# EAGLE library part AT32UC3C1512/1256/1128 (library atmel-avr32-michel)
AT32UC3C1512/1256/1128
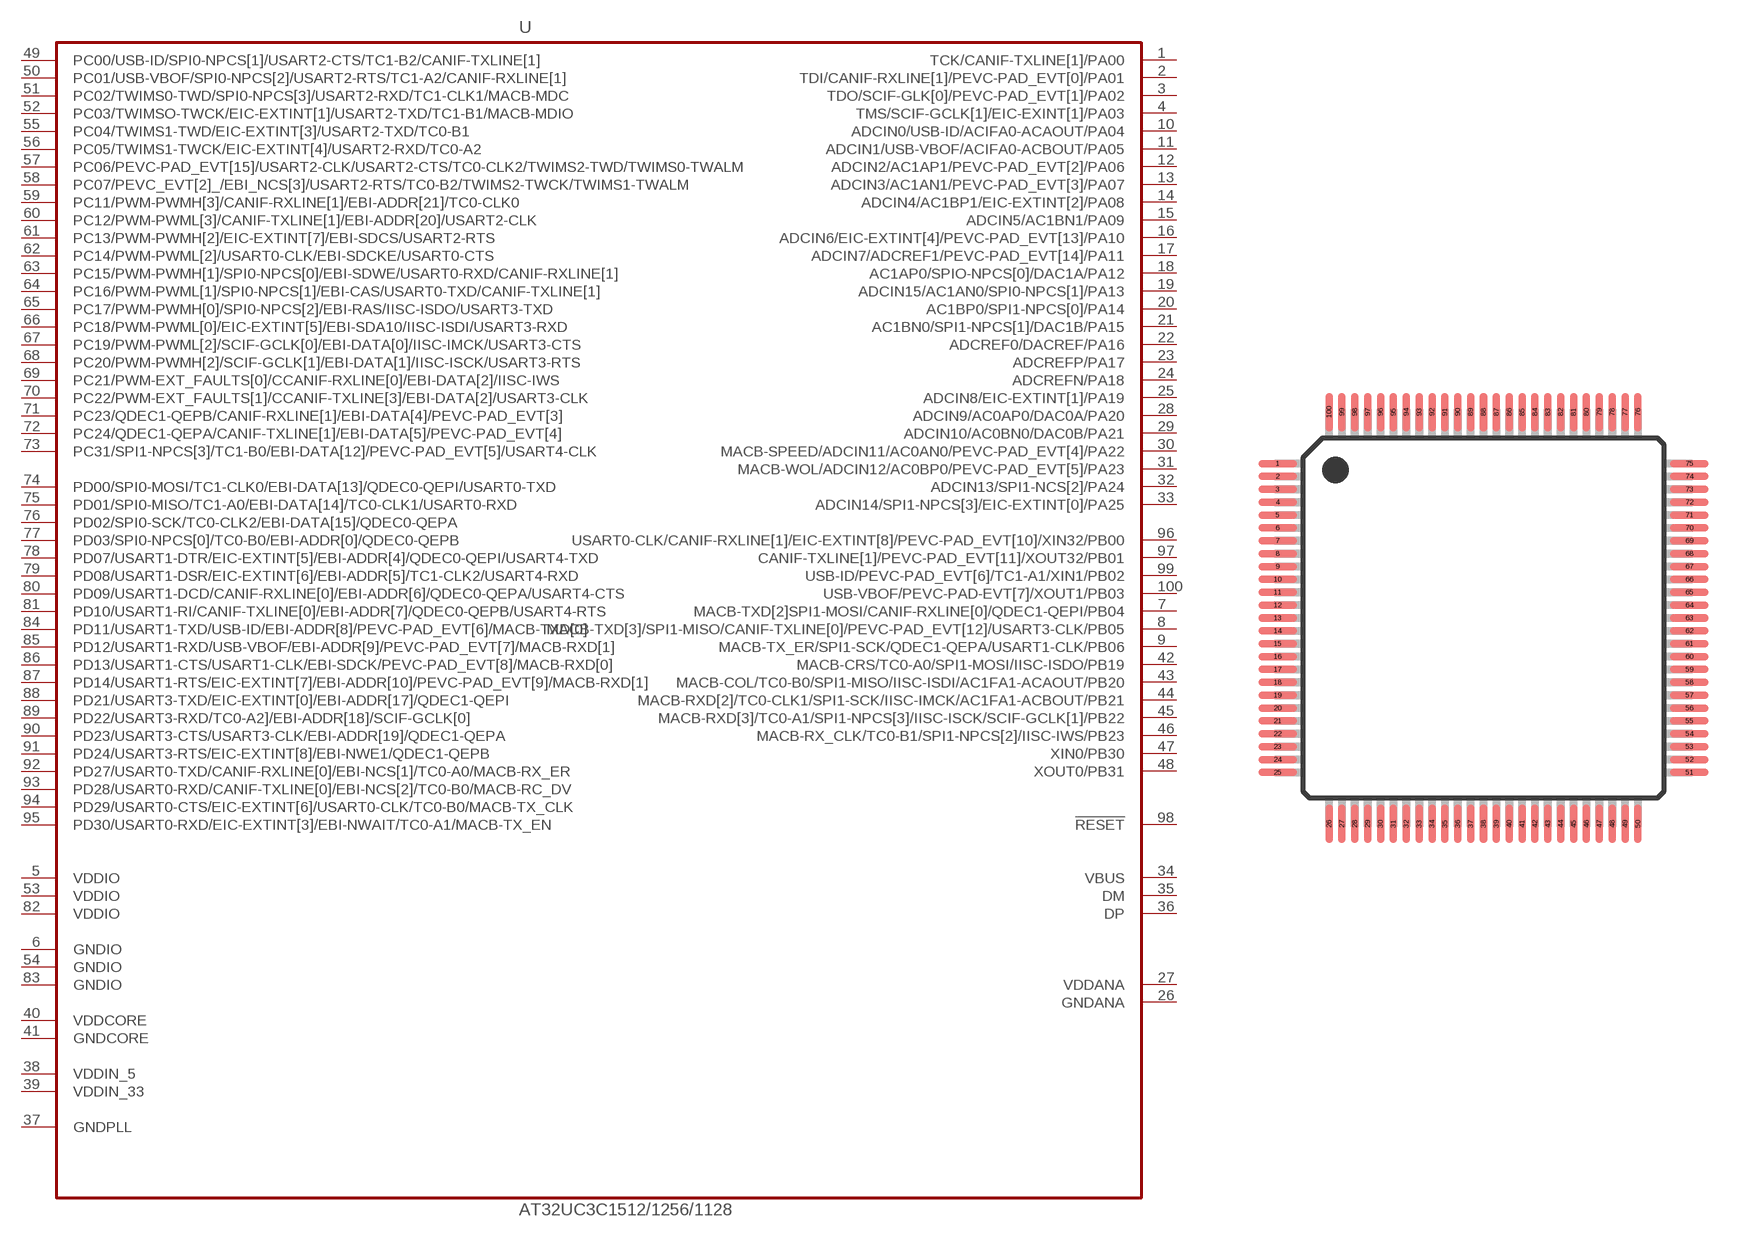
[diagram p2: symbol with the pads of TQFP100; footprint TQFP100]

Designator prefix U

## AT32UC3C1512/1256/1128 (DISTRIBUTOR: Digikey; ORDER_CODE: AT32UC3C1512C-AUT-ND; PLACE_PART: YES; UNIT_PRICE: 12.95; UNIT_PRICE_100X: 10.0128; UNIT_PRICE_10X: 11.78; UNIT_PRICE_25X: 10.8964; UNIT_PRICE_50X: 10.8964)  [TQFP100]
1  TCK/CANIF-TXLINE[1]/PA00
2  TDI/CANIF-RXLINE[1]/PEVC-PAD_EVT[0]/PA01
3  TDO/SCIF-GLK[0]/PEVC-PAD_EVT[1]/PA02
4  TMS/SCIF-GCLK[1]/EIC-EXINT[1]/PA03
5  VDDIO  pwr
6  GNDIO  pwr
7  MACB-TXD[2]SPI1-MOSI/CANIF-RXLINE[0]/QDEC1-QEPI/PB04
8  MACB-TXD[3]/SPI1-MISO/CANIF-TXLINE[0]/PEVC-PAD_EVT[12]/USART3-CLK/PB05
9  MACB-TX_ER/SPI1-SCK/QDEC1-QEPA/USART1-CLK/PB06
10  ADCIN0/USB-ID/ACIFA0-ACAOUT/PA04
11  ADCIN1/USB-VBOF/ACIFA0-ACBOUT/PA05
12  ADCIN2/AC1AP1/PEVC-PAD_EVT[2]/PA06
13  ADCIN3/AC1AN1/PEVC-PAD_EVT[3]/PA07
14  ADCIN4/AC1BP1/EIC-EXTINT[2]/PA08
15  ADCIN5/AC1BN1/PA09
16  ADCIN6/EIC-EXTINT[4]/PEVC-PAD_EVT[13]/PA10
17  ADCIN7/ADCREF1/PEVC-PAD_EVT[14]/PA11
18  AC1AP0/SPIO-NPCS[0]/DAC1A/PA12
19  ADCIN15/AC1AN0/SPI0-NPCS[1]/PA13
20  AC1BP0/SPI1-NPCS[0]/PA14
21  AC1BN0/SPI1-NPCS[1]/DAC1B/PA15
22  ADCREF0/DACREF/PA16
23  ADCREFP/PA17
24  ADCREFN/PA18
25  ADCIN8/EIC-EXTINT[1]/PA19
26  GNDANA  pwr
27  VDDANA  pwr
28  ADCIN9/AC0AP0/DAC0A/PA20
29  ADCIN10/AC0BN0/DAC0B/PA21
30  MACB-SPEED/ADCIN11/AC0AN0/PEVC-PAD_EVT[4]/PA22
31  MACB-WOL/ADCIN12/AC0BP0/PEVC-PAD_EVT[5]/PA23
32  ADCIN13/SPI1-NCS[2]/PA24
33  ADCIN14/SPI1-NPCS[3]/EIC-EXTINT[0]/PA25
34  VBUS
35  DM
36  DP
37  GNDPLL  pwr
38  VDDIN_5  pwr
39  VDDIN_33  pwr
40  VDDCORE  pwr
41  GNDCORE  pwr
42  MACB-CRS/TC0-A0/SPI1-MOSI/IISC-ISDO/PB19
43  MACB-COL/TC0-B0/SPI1-MISO/IISC-ISDI/AC1FA1-ACAOUT/PB20
44  MACB-RXD[2]/TC0-CLK1/SPI1-SCK/IISC-IMCK/AC1FA1-ACBOUT/PB21
45  MACB-RXD[3]/TC0-A1/SPI1-NPCS[3]/IISC-ISCK/SCIF-GCLK[1]/PB22
46  MACB-RX_CLK/TC0-B1/SPI1-NPCS[2]/IISC-IWS/PB23
47  XIN0/PB30
48  XOUT0/PB31
49  PC00/USB-ID/SPI0-NPCS[1]/USART2-CTS/TC1-B2/CANIF-TXLINE[1]
50  PC01/USB-VBOF/SPI0-NPCS[2]/USART2-RTS/TC1-A2/CANIF-RXLINE[1]
51  PC02/TWIMS0-TWD/SPI0-NPCS[3]/USART2-RXD/TC1-CLK1/MACB-MDC
52  PC03/TWIMSO-TWCK/EIC-EXTINT[1]/USART2-TXD/TC1-B1/MACB-MDIO
53  VDDIO  pwr
54  GNDIO  pwr
55  PC04/TWIMS1-TWD/EIC-EXTINT[3]/USART2-TXD/TC0-B1
56  PC05/TWIMS1-TWCK/EIC-EXTINT[4]/USART2-RXD/TC0-A2
57  PC06/PEVC-PAD_EVT[15]/USART2-CLK/USART2-CTS/TC0-CLK2/TWIMS2-TWD/TWIMS0-TWALM
58  PC07/PEVC_EVT[2]_/EBI_NCS[3]/USART2-RTS/TC0-B2/TWIMS2-TWCK/TWIMS1-TWALM
59  PC11/PWM-PWMH[3]/CANIF-RXLINE[1]/EBI-ADDR[21]/TC0-CLK0
60  PC12/PWM-PWML[3]/CANIF-TXLINE[1]/EBI-ADDR[20]/USART2-CLK
61  PC13/PWM-PWMH[2]/EIC-EXTINT[7]/EBI-SDCS/USART2-RTS
62  PC14/PWM-PWML[2]/USART0-CLK/EBI-SDCKE/USART0-CTS
63  PC15/PWM-PWMH[1]/SPI0-NPCS[0]/EBI-SDWE/USART0-RXD/CANIF-RXLINE[1]
64  PC16/PWM-PWML[1]/SPI0-NPCS[1]/EBI-CAS/USART0-TXD/CANIF-TXLINE[1]
65  PC17/PWM-PWMH[0]/SPI0-NPCS[2]/EBI-RAS/IISC-ISDO/USART3-TXD
66  PC18/PWM-PWML[0]/EIC-EXTINT[5]/EBI-SDA10/IISC-ISDI/USART3-RXD
67  PC19/PWM-PWML[2]/SCIF-GCLK[0]/EBI-DATA[0]/IISC-IMCK/USART3-CTS
68  PC20/PWM-PWMH[2]/SCIF-GCLK[1]/EBI-DATA[1]/IISC-ISCK/USART3-RTS
69  PC21/PWM-EXT_FAULTS[0]/CCANIF-RXLINE[0]/EBI-DATA[2]/IISC-IWS
70  PC22/PWM-EXT_FAULTS[1]/CCANIF-TXLINE[3]/EBI-DATA[2]/USART3-CLK
71  PC23/QDEC1-QEPB/CANIF-RXLINE[1]/EBI-DATA[4]/PEVC-PAD_EVT[3]
72  PC24/QDEC1-QEPA/CANIF-TXLINE[1]/EBI-DATA[5]/PEVC-PAD_EVT[4]
73  PC31/SPI1-NPCS[3]/TC1-B0/EBI-DATA[12]/PEVC-PAD_EVT[5]/USART4-CLK
74  PD00/SPI0-MOSI/TC1-CLK0/EBI-DATA[13]/QDEC0-QEPI/USART0-TXD
75  PD01/SPI0-MISO/TC1-A0/EBI-DATA[14]/TC0-CLK1/USART0-RXD
76  PD02/SPI0-SCK/TC0-CLK2/EBI-DATA[15]/QDEC0-QEPA
77  PD03/SPI0-NPCS[0]/TC0-B0/EBI-ADDR[0]/QDEC0-QEPB
78  PD07/USART1-DTR/EIC-EXTINT[5]/EBI-ADDR[4]/QDEC0-QEPI/USART4-TXD
79  PD08/USART1-DSR/EIC-EXTINT[6]/EBI-ADDR[5]/TC1-CLK2/USART4-RXD
80  PD09/USART1-DCD/CANIF-RXLINE[0]/EBI-ADDR[6]/QDEC0-QEPA/USART4-CTS
81  PD10/USART1-RI/CANIF-TXLINE[0]/EBI-ADDR[7]/QDEC0-QEPB/USART4-RTS
82  VDDIO  pwr
83  GNDIO  pwr
84  PD11/USART1-TXD/USB-ID/EBI-ADDR[8]/PEVC-PAD_EVT[6]/MACB-TXD[0]
85  PD12/USART1-RXD/USB-VBOF/EBI-ADDR[9]/PEVC-PAD_EVT[7]/MACB-RXD[1]
86  PD13/USART1-CTS/USART1-CLK/EBI-SDCK/PEVC-PAD_EVT[8]/MACB-RXD[0]
87  PD14/USART1-RTS/EIC-EXTINT[7]/EBI-ADDR[10]/PEVC-PAD_EVT[9]/MACB-RXD[1]
88  PD21/USART3-TXD/EIC-EXTINT[0]/EBI-ADDR[17]/QDEC1-QEPI
89  PD22/USART3-RXD/TC0-A2]/EBI-ADDR[18]/SCIF-GCLK[0]
90  PD23/USART3-CTS/USART3-CLK/EBI-ADDR[19]/QDEC1-QEPA
91  PD24/USART3-RTS/EIC-EXTINT[8]/EBI-NWE1/QDEC1-QEPB
92  PD27/USART0-TXD/CANIF-RXLINE[0]/EBI-NCS[1]/TC0-A0/MACB-RX_ER
93  PD28/USART0-RXD/CANIF-TXLINE[0]/EBI-NCS[2]/TC0-B0/MACB-RC_DV
94  PD29/USART0-CTS/EIC-EXTINT[6]/USART0-CLK/TC0-B0/MACB-TX_CLK
95  PD30/USART0-RXD/EIC-EXTINT[3]/EBI-NWAIT/TC0-A1/MACB-TX_EN
96  USART0-CLK/CANIF-RXLINE[1]/EIC-EXTINT[8]/PEVC-PAD_EVT[10]/XIN32/PB00
97  CANIF-TXLINE[1]/PEVC-PAD_EVT[11]/XOUT32/PB01
98  !RESET  in
99  USB-ID/PEVC-PAD_EVT[6]/TC1-A1/XIN1/PB02
100  USB-VBOF/PEVC-PAD-EVT[7]/XOUT1/PB03

## Footprint TQFP100 (pad centres in mm)
Plastic Thin Quad Flat Pack
smd 1.5 x 0.3: 1 -8,6; 2 -8,5.5; 3 -8,5; 4 -8,4.5; 5 -8,4; 6 -8,3.5; 7 -8,3; 8 -8,2.5; 9 -8,2; 10 -8,1.5; 11 -8,1; 12 -8,0.5; 13 -8,0; 14 -8,-0.5; 15 -8,-1; 16 -8,-1.5; 17 -8,-2; 18 -8,-2.5; 19 -8,-3; 20 -8,-3.5; 21 -8,-4; 22 -8,-4.5; 23 -8,-5; 24 -8,-5.5; 25 -8,-6; 51 8,-6; 52 8,-5.5; 53 8,-5; 54 8,-4.5; 55 8,-4; 56 8,-3.5; 57 8,-3; 58 8,-2.5; 59 8,-2; 60 8,-1.5; 61 8,-1; 62 8,-0.5; 63 8,0; 64 8,0.5; 65 8,1; 66 8,1.5; 67 8,2; 68 8,2.5; 69 8,3; 70 8,3.5; 71 8,4; 72 8,4.5; 73 8,5; 74 8,5.5; 75 8,6
smd 0.3 x 1.5: 26 -6,-8; 27 -5.5,-8; 28 -5,-8; 29 -4.5,-8; 30 -4,-8; 31 -3.5,-8; 32 -3,-8; 33 -2.5,-8; 34 -2,-8; 35 -1.5,-8; 36 -1,-8; 37 -0.5,-8; 38 0,-8; 39 0.5,-8; 40 1,-8; 41 1.5,-8; 42 2,-8; 43 2.5,-8; 44 3,-8; 45 3.5,-8; 46 4,-8; 47 4.5,-8; 48 5,-8; 49 5.5,-8; 50 6,-8; 76 6,8; 77 5.5,8; 78 5,8; 79 4.5,8; 80 4,8; 81 3.5,8; 82 3,8; 83 2.5,8; 84 2,8; 85 1.5,8; 86 1,8; 87 0.5,8; 88 0,8; 89 -0.5,8; 90 -1,8; 91 -1.5,8; 92 -2,8; 93 -2.5,8; 94 -3,8; 95 -3.5,8; 96 -4,8; 97 -4.5,8; 98 -5,8; 99 -5.5,8; 100 -6,8